# Altium schematic symbol library Z5730M.SchLib: 2 symbols
Pins are listed as number, name and electrical type; pins without a type are passive.

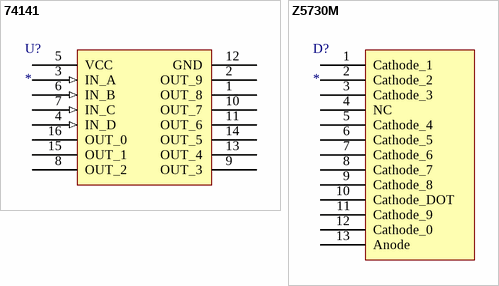
[diagram p0: symbols 74141 to Z5730M]

## 74141
designator U?
footprint DIP-16 (Footprint not found)
pins: 1 OUT_8 (oc), 2 OUT_9 (oc), 3 IN_A (in), 4 IN_D (in), 5 VCC (power), 6 IN_B (in), 7 IN_C (in), 8 OUT_2 (oc), 9 OUT_3 (oc), 10 OUT_7 (oc), 11 OUT_6 (oc), 12 GND (power), 13 OUT_4 (oc), 14 OUT_5 (oc), 15 OUT_1 (oc), 16 OUT_0 (oc)

## Z5730M
designator D?
footprint Z5730M
pins: 1 Cathode_1, 2 Cathode_2, 3 Cathode_3, 4 NC, 5 Cathode_4, 6 Cathode_5, 7 Cathode_6, 8 Cathode_7, 9 Cathode_8, 10 Cathode_DOT, 11 Cathode_9, 12 Cathode_0, 13 Anode